# Altium footprint library Random.PcbLib: 25 footprints (part 1 of 2)
Each footprint in its own frame and in the unit in brackets; x right, y up, seen from the top. Pads: shape width x height; smd on the part's side, far side on the other; paste and mask are expansions set on the pad; w line width, h text height; cw(c..) or ccw(c..) is an arc to the next point about the centre after c.
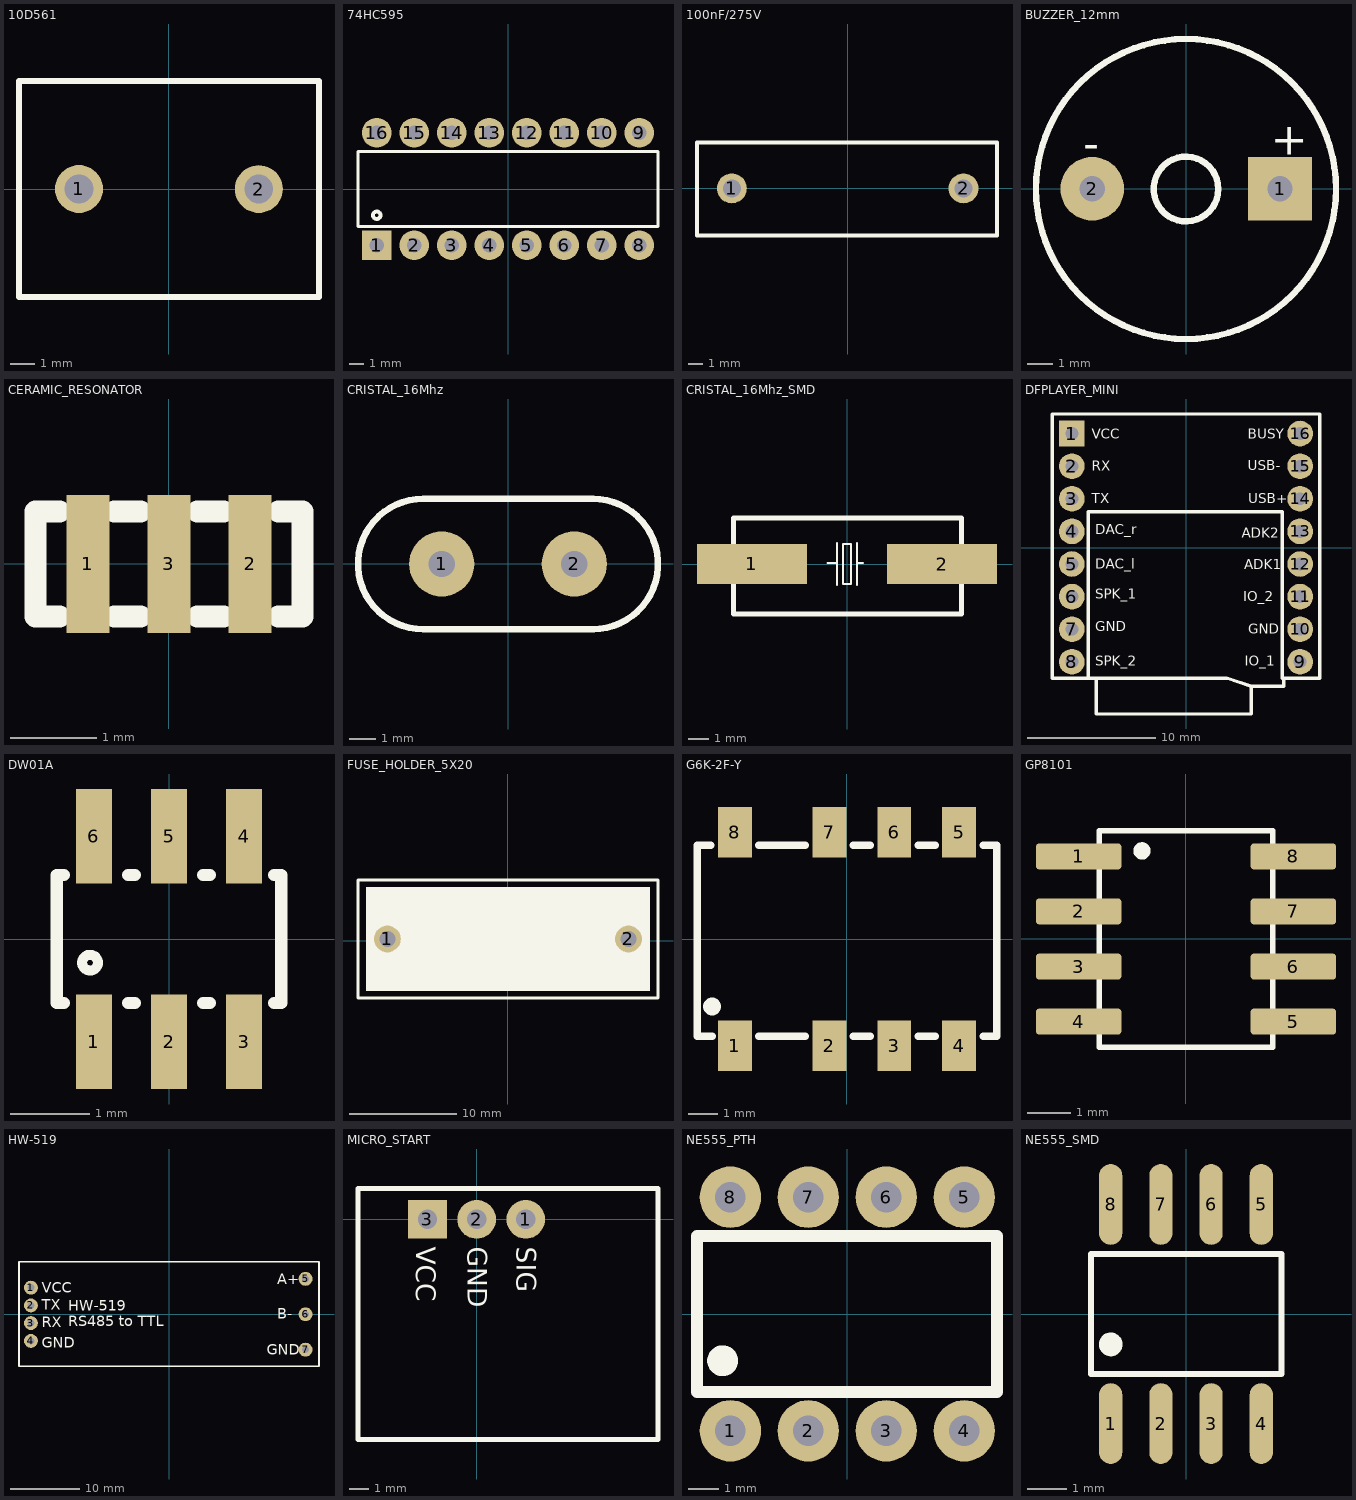
[diagram p0: the footprints below, top view; thin cyan lines are the x and y axes]

## 10D561 [mm]
pads (2):
  round 2 hole 1.2 paste-2539.97 mask+0.051: 1(-3.749,0.001) 2(3.749,-0.001)
Top Overlay:
  lines w0.254: -6.25,4.501 6.25,4.501 6.25,-4.499 ; -6.245,4.501 -6.245,-4.499 6.257,-4.499
3D body "10D561.step": height 16.75, standoff -19.75, extent -7.313,-5.401 7.419,5.304

## 74HC595 [mm] "DIP-16"
pads (16):
  rect 2x2 hole 1: 1(-8.89,-3.81)
  round 2 hole 1: 2(-6.35,-3.81) 3(-3.81,-3.81) 4(-1.27,-3.81) 5(1.27,-3.81) 6(3.81,-3.81) 7(6.35,-3.81) 8(8.89,-3.81) 9(8.89,3.81) 10(6.35,3.81) 11(3.81,3.81) 12(1.27,3.81) 13(-1.27,3.81) 14(-3.81,3.81) 15(-6.35,3.81) 16(-8.89,3.81)
Top Overlay:
  circle w0.254: c-8.89,-1.778 r0.254
  lines w0.229: -10.16,-2.54 10.16,-2.54 10.16,2.54 -10.16,2.54 -10.16,-2.54
3D body "74HC595.STEP": height 8.48, standoff -2.86, extent -10.147,-5.143 10.173,5.016

## 100nF/275V [mm]
pads (2):
  round 2 hole 1.2 paste-2539.97 mask+0.051: 1(-7.75,0) 2(7.75,0)
Top Overlay:
  lines w0.254: -10.08,-3.153 9.986,-3.153 9.986,3.07 -10.08,3.07 -10.08,-3.153
3D body "100nF_275V.stp": height 14.39, standoff -2.66, extent -10.122,-3.13 10.028,3.07

## BUZZER_12mm [mm] "BUZZER MAGNETIC 12MM"
pads (2):
  rect 2.5x2.5 hole 1: 1(3.688,0)
  round 2.5 hole 1: 2(-3.688,0)
Top Overlay:
  circle w0.254: c-0.005,-0.008 r5.893
  circle w0.254: c-0.005,-0.008 r1.27
  text "+" at 3.322,1.33 h1.27
  text "-" at -4.044,1.16 h1.27
3D body "BUZZER_12mm.step": height 9.51, standoff -2.34, extent -6.002,-5.977 5.992,6.021

## CERAMIC_RESONATOR [mil]
pads (3):
  rect 19.7x63 smd: 1(-37,0) 2(37,0) 3(0,0)
Top Overlay:
  lines w10: -50,-24 -61,-24 -61,24 -50,24 ; -25,-24 -13,-24 ; -25,24 -13,24 ; 13,-24 25,-24 ; 13,24 25,24 ; 50,-24 61,-24 61,24 50,24
3D body "CERAMIC_RESONATOR.stp": height 27.56, standoff 0, extent -62.99,-25.59 62.99,25.59

## CRISTAL_16Mhz [mm] "CRYSTAL 16MHZ PTH"
pads (2):
  round 2.5 hole 1: 1(-2.54,0) 2(2.54,0)
Top Overlay:
  lines w0.127: -3.213,2.432 -3.213,2.559 3.287,2.559 3.287,2.432 -3.213,2.432 ; -3.192,-2.562 3.308,-2.562 3.308,-2.435 -3.192,-2.435 -3.192,-2.562
  lines w0.254: -3.25,-2.5 cw(c-3.25,0) -3.25,2.5 ; 3.25,-2.5 ccw(c3.25,0) 3.25,2.5
3D body "Cristal_16MHz.STEP": height 3.55, standoff -1.95, extent -5.558,-2.24 5.442,2.26

## CRISTAL_16Mhz_SMD [mm]
pads (2):
  rect 5.5x2 smd: 1(-4.75,0) 2(4.75,0)
Top Overlay:
  lines w0.1: -0.97,0.043 -0.57,0.043 ; -0.507,-1.061 -0.507,1.04 ; -0.207,0.959 -0.207,-1.011 0.193,-1.011 0.193,0.959 ; -0.207,0.989 0.193,0.989 ; 0.493,-1.061 0.493,1.04 ; 0.493,0.043 0.793,0.043
  lines w0.254: -5.683,-2.504 5.717,-2.504 5.717,2.296 -5.683,2.296 -5.683,-2.504
3D body "CRYSTAL_16MHz_SMD.STEP": height 4.3, standoff 0, extent -6.611,-2.521 6.589,2.279

## DFPLAYER_MINI [mm]
pads (16):
  rect 2x2 hole 1: 1(-8.89,8.89)
  round 2 hole 1: 2(-8.89,6.35) 3(-8.89,3.81) 4(-8.89,1.27) 5(-8.89,-1.27) 6(-8.89,-3.81) 7(-8.89,-6.35) 8(-8.89,-8.89) 9(8.89,-8.89) 10(8.89,-6.35) 11(8.89,-3.81) 12(8.89,-1.27) 13(8.89,1.27) 14(8.89,3.81) 15(8.89,6.35) 16(8.89,8.89)
Top Overlay:
  lines w0.254: -7.62,-10.16 -7.62,2.794 7.493,2.794 7.493,-10.16 ; -6.985,-10.16 3.175,-10.16 5.08,-10.795 ; -6.985,-10.16 -10.414,-10.16 -10.414,10.414 10.414,10.414 10.414,-10.16 7.62,-10.16 7.62,-10.795 5.08,-10.795 ; -6.985,-10.16 -6.985,-12.954 5.08,-12.954 5.08,-10.795
  text "BUSY" at 4.801,8.484 h0.76
  text "USB-" at 4.801,6.045 h0.76
  text "USB+" at 4.851,3.454 h0.76
  text "GND" at 4.851,-6.706 h0.76
  text "IO_1" at 4.572,-9.195 h0.76
  text "ADK1" at 4.521,-1.676 h0.76
  text "IO_2" at 4.47,-4.166 h0.76
  text "ADK2" at 4.343,0.787 h0.76
  text "SPK_2" at -7.061,-9.195 h0.76
  text "GND" at -7.061,-6.528 h0.76
  text "SPK_1" at -7.061,-3.988 h0.76
  text "DAC_l" at -7.087,-1.626 h0.76
  text "DAC_r" at -7.087,1.041 h0.76
  text "TX" at -7.341,3.454 h0.76
  text "RX" at -7.341,5.994 h0.76
  text "VCC" at -7.341,8.468 h0.76
3D body "DFPLAYER_MINI.STEP": height 5.7, standoff -5.5, extent -10.386,-13.127 10.414,10.333

## DW01A [mm] "SOT-23-6"
pads (6):
  rect 0.45x1.2 smd: 1(-0.95,-1.3) 2(0,-1.3) 3(0.95,-1.3) 4(0.95,1.3) 5(0,1.3) 6(-0.95,1.3)
Top Overlay:
  circle w0.127: c-1,-0.3 r0.1
  lines w0.152: -1.328,-0.81 -1.422,-0.81 -1.422,0.81 -1.328,0.81 ; -0.522,-0.81 -0.428,-0.81 ; -0.522,0.81 -0.428,0.81 ; 0.428,-0.81 0.522,-0.81 ; 0.428,0.81 0.522,0.81 ; 1.328,-0.81 1.422,-0.81 1.422,0.81 1.328,0.81
3D body "step_temp.STEP": height 1.45, standoff 0, extent -1.45,-1.4 1.45,1.4

## FUSE_HOLDER_5X20 [mm]
pads (2):
  round 2.5 hole 1.5 paste-2539.97 mask+0.102: 1(-11.224,0.166) 2(11.276,0.166)
Top Overlay:
  pour cut-out: -13.178,4.992 13.238,4.992 13.238,-4.66 -13.178,-4.66
  lines w0.254: -13.97,-5.334 14.03,-5.334 14.03,5.666 -13.97,5.666 -13.97,-5.334
  text "FUSE" at -7.474,-2.013 h4.06
3D body "FUSE_HOLDER_5X20.SLDPRT": height 13, standoff -4.5, extent -13,-4.572 13,4.928

## G6K-2F-Y [mm]
pads (8):
  rect 1.15x1.7 smd: 1(-3.8,-3.617) 2(-0.6,-3.617) 3(1.6,-3.617) 4(3.8,-3.617) 5(3.8,3.617) 6(1.6,3.617) 7(-0.6,3.617) 8(-3.8,3.617)
Top Overlay:
  circle w0.3: c-4.572,-2.286 r0.15
  lines w0.254: -4.606,3.175 -5.08,3.175 -5.08,-3.175 -5.08,-3.302 -4.572,-3.302 ; -2.994,-3.302 -1.406,-3.302 ; -2.994,3.175 -1.406,3.175 ; 0.206,-3.302 0.794,-3.302 ; 0.206,3.175 0.794,3.175 ; 2.406,-3.302 2.994,-3.302 ; 2.406,3.175 2.994,3.175 ; 4.606,-3.302 5.08,-3.302 5.08,3.175 4.606,3.175
3D body "G6K-2F-Y.stp": height 5.2, standoff 0, extent -5,-3.846 5,3.954

## GP8101 [mm]
pads (8):
  rrect25% 1.97x0.6 smd paste+0 mask+0.102: 1(-2.475,1.905) 2(-2.475,0.635) 3(-2.475,-0.635) 4(-2.475,-1.905) 5(2.475,-1.905) 6(2.475,-0.635) 7(2.475,0.635) 8(2.475,1.905)
Top Overlay:
  circle w0.2: c-1.016,2.032 r0.1
  lines w0.127: -2,-2.5 -2,2.5 2,2.5 2,-2.5 -2,-2.5
3D body "step_temp.STEP": height 1.75, standoff 0, extent -3,-2.45 3,2.45

## HW-519 [mm]
pads (7):
  round 2 hole 1 paste-2539.97 mask+0.051: 1(-19.796,3.773) 2(-19.796,1.233) 3(-19.796,-1.307) 4(-19.796,-3.847) 5(19.574,5.043) 6(19.574,-0.037) 7(19.574,-5.117)
Top Overlay:
  lines w0.254: -21.5,-7.5 21.5,-7.5 21.5,7.5 -21.5,7.5 -21.5,-7.5
  text "A+" at 15.486,4.293 h1.5
  text "HW-519 / RS485 to TTL" at -14.45,-1.776 h1.5
  text "GND" at 13.986,-5.867 h1.5
  text "B-" at 15.486,-0.66 h1.5
  text "GND" at -18.272,-4.851 h1.5
  text "RX" at -18.272,-1.93 h1.5
  text "TX" at -18.272,0.61 h1.5
  text "VCC" at -18.272,3.023 h1.5
3D body "HW-519.x_t": height 3.5, standoff -7.7, extent -21.5,-7.5 21.5,7.5

## MICRO_START [mm]
pads (3):
  round 2 hole 1: 1(2.54,0) 2(0,0)
  rect 2x2 hole 1: 3(-2.54,0)
Top Overlay:
  lines w0.254: -6.127,-11.365 9.367,-11.365 9.367,1.589 -6.127,1.589 -6.127,-11.365
  text "GND" at -0.463,-1.408 h1
  text "SIG" at 2.077,-1.408 h1
  text "VCC" at -3.13,-1.408 h1
3D body "MICROSTART.step": height 3.58, standoff 0.4, extent -6.126,-11.329 9.366,1.462

## NE555_PTH [mm] "DIP-8"
pads (8):
  round 2 hole 1: 1(-3.81,-3.81) 2(-1.27,-3.81) 3(1.27,-3.81) 4(3.81,-3.81) 5(3.81,3.81) 6(1.27,3.81) 7(-1.27,3.81) 8(-3.81,3.81)
Top Overlay:
  circle w0.5: c-4.064,-1.524 r0.254
  lines w0.4: -4.899,-2.54 -4.899,2.54 4.88,2.54 4.88,-2.54 -4.899,-2.54
3D body "NE555_PTH.SLDPRT": height 9.41, standoff -3.17, extent -5.026,-5.399 5.007,5.523

## NE555_SMD [mm] "SOP-8"
pads (8):
  oval 0.588x2.045 smd: 1(-1.905,-2.773) 2(-0.635,-2.773) 3(0.635,-2.773) 4(1.905,-2.773) 5(1.905,2.773) 6(0.635,2.773) 7(-0.635,2.773) 8(-1.905,2.773)
Top Overlay:
  circle w0.3: c-1.905,-0.769 r0.15
  lines w0.152: -2.407,-1.521 2.419,-1.521 2.419,1.521 -2.407,1.521 -2.407,-1.521
3D body "NE555_SMD.STEP": height 1.75, standoff 0, extent -2.445,-2.985 2.457,3.01